# EAGLE library part LTC6930CMS8-8.19 (library LTC6390)
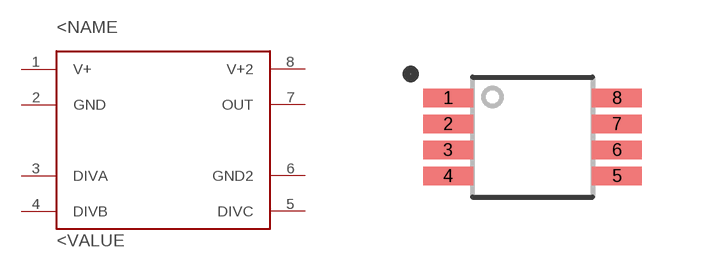
[diagram p0: symbol with the pads of SOP65P490X110-8N; footprint SOP65P490X110-8N]

Designator prefix -

## LTC6930CMS8-8.19LTC6930CMS8-8.19  [SOP65P490X110-8N]
1  V+
2  GND
3  DIVA
4  DIVB
5  DIVC
6  GND2
7  OUT
8  V+2

## Footprint SOP65P490X110-8N (pad centres in mm)
smd 1.25 x 0.46: 1 -2.11,0.975; 2 -2.11,0.325; 3 -2.11,-0.325; 4 -2.11,-0.975; 5 2.11,-0.975; 6 2.11,-0.325; 7 2.11,0.325; 8 2.11,0.975